# EAGLE library part DRV8871DDARQ1 (library DRV8871DDARQ1)
3.6A Automotive Brushed DC Motor Driver With Integrated Current Sensing (PWM Ctrl) Source: Datasheet <http://www.ti.com/lit/gpn/drv8871-q1>
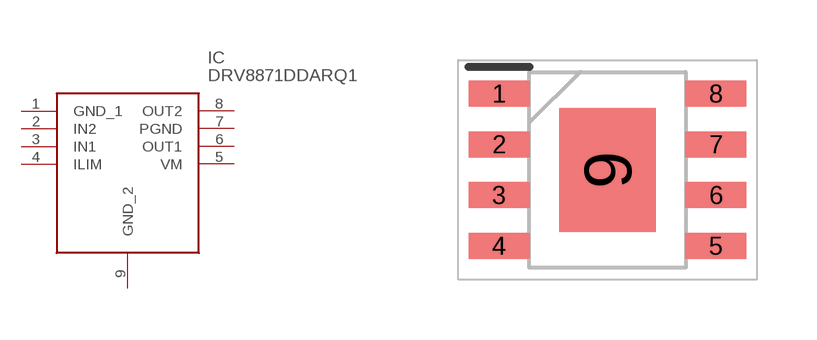
[diagram p0: symbol with the pads of SOIC127P600X170-9N; footprint SOIC127P600X170-9N]

Designator prefix IC

## DRV8871DDARQ1 (Description: 3.6A Automotive Brushed DC Motor Driver With Integrated Current Sensing (PWM Ctrl); Height: 1.7mm; Manufacturer_Name: Texas Instruments; Manufacturer_Part_Number: DRV8871DDARQ1; Mouser_Part_Number: 595-DRV8871DDARQ1; Mouser_Price-Stock: https://www.mouser.co.uk/ProductDetail/Texas-Instruments/DRV8871DDARQ1?qs=AQlKX63v8RstMGgN6CYN5Q%3D%3D)  [SOIC127P600X170-9N]
1  GND_1
2  IN2
3  IN1
4  ILIM
5  VM
6  OUT1
7  PGND
8  OUT2
9  GND_2

## Footprint SOIC127P600X170-9N (pad centres in mm)
DRV8871DDARQ1-1
smd 1.525 x 0.65: 1 -2.712,1.905; 2 -2.712,0.635; 3 -2.712,-0.635; 4 -2.712,-1.905; 5 2.712,-1.905; 6 2.712,-0.635; 7 2.712,0.635; 8 2.712,1.905
smd 2.4 x 3.1: 9 0,0